# EAGLE library part ENC28J60 (library dooba)
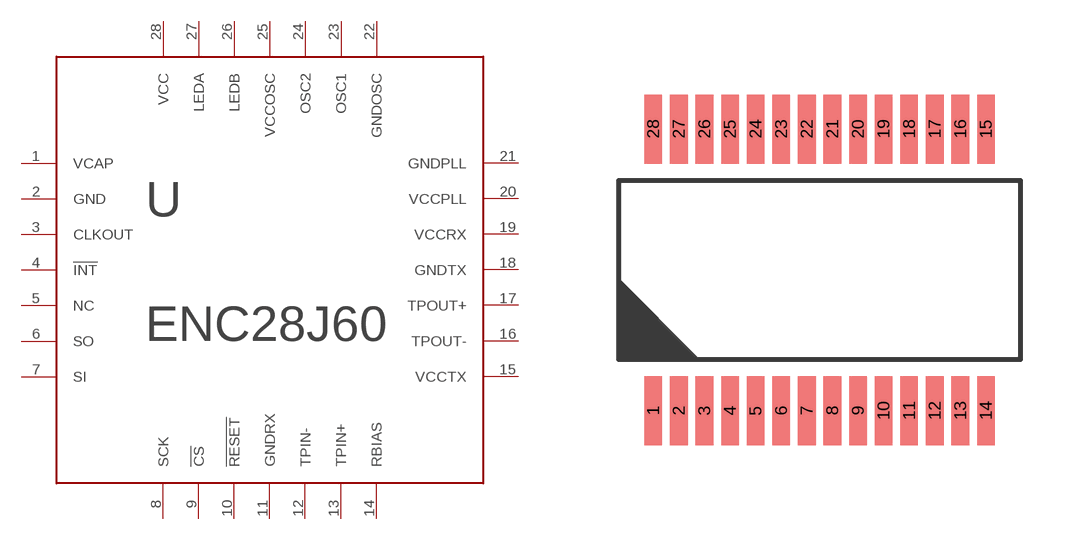
[diagram p3: symbol with the pads of SSOP28; footprint SSOP28]

Designator prefix U

## ENC28J60SSOP28  [SSOP28]
1  VCAP
2  GND
3  CLKOUT
4  !INT
5  NC
6  SO
7  SI
8  SCK
9  !CS
10  !RESET
11  GNDRX
12  TPIN-
13  TPIN+
14  RBIAS
15  VCCTX
16  TPOUT-
17  TPOUT+
18  GNDTX
19  VCCRX
20  VCCPLL
21  GNDPLL
22  GNDOSC
23  OSC1
24  OSC2
25  VCCOSC
26  LEDB
27  LEDA
28  VCC

## Footprint SSOP28 (pad centres in mm)
smd 0.45 x 1.75: 1 -4.225,-3.575; 2 -3.575,-3.575; 3 -2.925,-3.575; 4 -2.275,-3.575; 5 -1.625,-3.575; 6 -0.975,-3.575; 7 -0.325,-3.575; 8 0.325,-3.575; 9 0.975,-3.575; 10 1.625,-3.575; 11 2.275,-3.575; 12 2.925,-3.575; 13 3.575,-3.575; 14 4.225,-3.575; 15 4.225,3.575; 16 3.575,3.575; 17 2.925,3.575; 18 2.275,3.575; 19 1.625,3.575; 20 0.975,3.575; 21 0.325,3.575; 22 -0.325,3.575; 23 -0.975,3.575; 24 -1.625,3.575; 25 -2.275,3.575; 26 -2.925,3.575; 27 -3.575,3.575; 28 -4.225,3.575